# EAGLE library part L3GD20H (library pixhawk2)
L3GD20H MEMS motion sensor: 3-axis digital output gyroscope
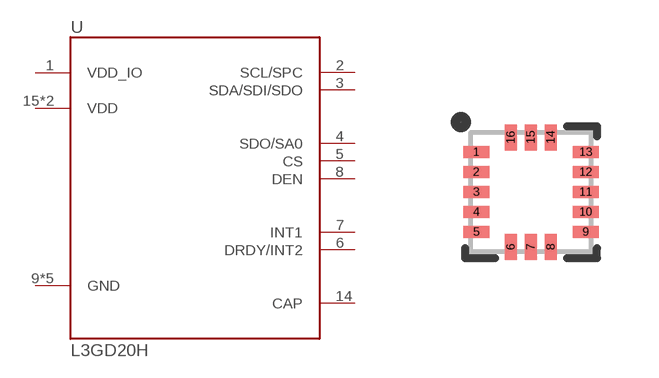
[diagram p72: symbol with the pads of LGA-16L; footprint LGA-16L]

Designator prefix -

## L3GD20H (DATASHEET: http://www.st.com/internet/com/TECHNICAL_RESOURCES/TECHNICAL_LITERATURE/DATASHEET/DM00060659.pdf; LINK: http://www.st.com/internet/analog/product/254039.jsp; MFGPN: L3GD20H)  [LGA-16L]
1  VDD_IO
2  SCL/SPC
3  SDA/SDI/SDO
4  SDO/SA0
5  CS
6  DRDY/INT2
7  INT1
8  DEN
9  GND
10  GND
11  GND
12  GND
13  GND
14  CAP
15  VDD
16  VDD

## Footprint LGA-16L (pad centres in mm)
smd 0.65 x 0.3: 1 -1.37,1; 2 -1.37,0.5; 3 -1.37,0; 4 -1.37,-0.5; 5 -1.37,-1; 9 1.37,-1; 10 1.37,-0.5; 11 1.37,0; 12 1.37,0.5; 13 1.37,1
smd 0.3 x 0.65: 6 -0.5,-1.37; 7 0,-1.37; 8 0.5,-1.37; 14 0.5,1.37; 15 0,1.37; 16 -0.5,1.37